# EAGLE library part HT8950 (library SparkFun)
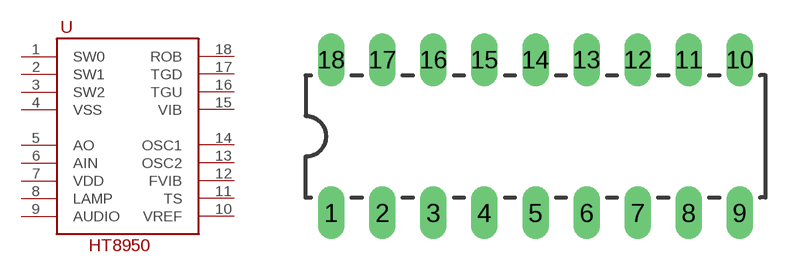
[diagram p386: symbol with the pads of DIL18; footprint DIL18]

Designator prefix -

## HT8950  [DIL18]
1  SW0
2  SW1
3  SW2
4  VSS
5  AO
6  AIN
7  VDD
8  LAMP
9  AUDIO
10  VREF
11  TS
12  FVIB
13  OSC2
14  OSC1
15  VIB
16  TGU
17  TGD
18  ROB

## Footprint DIL18 (pad centres in mm)
Dual In Line Package
drill 0.813 long: 1 -10.16,-3.81; 2 -7.62,-3.81; 3 -5.08,-3.81; 4 -2.54,-3.81; 5 0,-3.81; 6 2.54,-3.81; 7 5.08,-3.81; 8 7.62,-3.81; 9 10.16,-3.81; 10 10.16,3.81; 11 7.62,3.81; 12 5.08,3.81; 13 2.54,3.81; 14 0,3.81; 15 -2.54,3.81; 16 -5.08,3.81; 17 -7.62,3.81; 18 -10.16,3.81